# EAGLE library part TXB0102DCUR (library TXB0102DCUR)
2-Bit Bidirectional Voltage-Level Shifter with Auto Direction Sensing and +/-15-kV ESD Protect Source: Datasheet <http://www.ti.com/lit/gpn/txb0102>
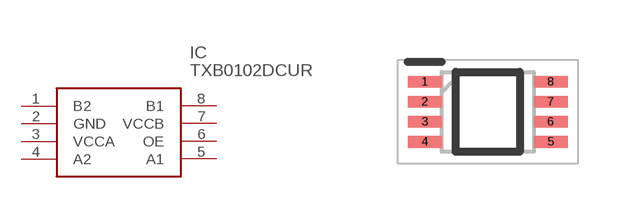
[diagram p0: symbol with the pads of SOP50P310X90-8N; footprint SOP50P310X90-8N]

Designator prefix IC

## TXB0102DCUR (Arrow_Part_Number: TXB0102DCUR; Arrow_Price-Stock: https://www.arrow.com/en/products/txb0102dcur/texas-instruments?utm_currency=USD&region=europe; Description: 2-Bit Bidirectional Voltage-Level Shifter with Auto Direction Sensing and +/-15-kV ESD Protect; Height: 0.9mm; Manufacturer_Name: Texas Instruments; Manufacturer_Part_Number: TXB0102DCUR; Mouser_Part_Number: 595-TXB0102DCUR; Mouser_Price-Stock: https://www.mouser.co.uk/ProductDetail/Texas-Instruments/TXB0102DCUR?qs=0OHPnBYoB%2FkdfwFK6IXZ5Q%3D%3D)  [SOP50P310X90-8N]
1  B2
2  GND
3  VCCA
4  A2
5  A1
6  OE
7  VCCB
8  B1

## Footprint SOP50P310X90-8N (pad centres in mm)
DCU (R-PDSO-G8)
smd 0.85 x 0.3: 1 -1.575,0.75; 2 -1.575,0.25; 3 -1.575,-0.25; 4 -1.575,-0.75; 5 1.575,-0.75; 6 1.575,-0.25; 7 1.575,0.25; 8 1.575,0.75